# EAGLE library part MIC4423B (library TABOR K1)
2x Invertor driver MOSFET
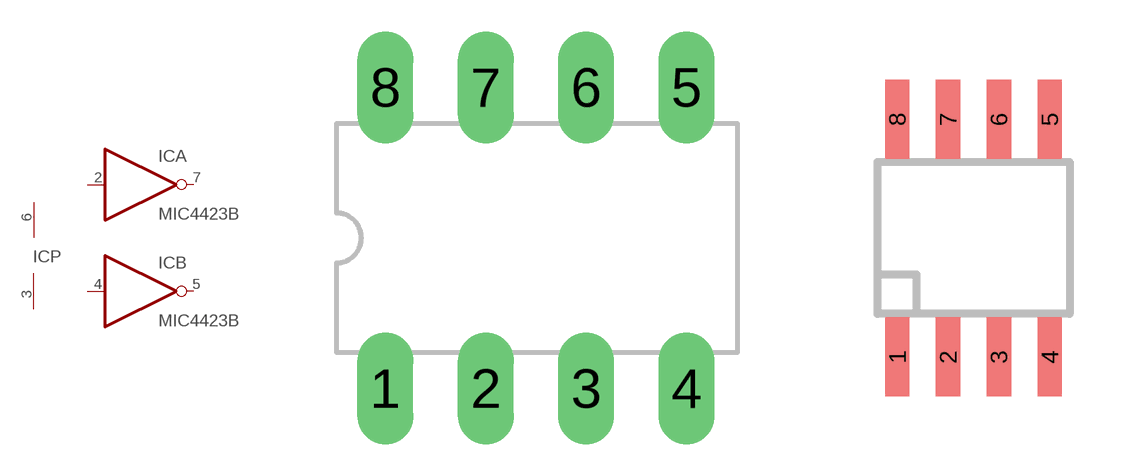
[diagram p60: symbol with the pads of DIL08; footprints DIL08, SO08]

Designator prefix IC; gates A=INVERTOR-AMP B=INVERTOR-AMP P=PWR-GND+V

## MIC4423BN  [DIL08]
2  A:IN  in
3  P:GND  pwr
4  B:IN  in
5  B:OUT  out
6  P:V+  pwr
7  A:OUT  out

## MIC4423BM  [SO08]
Pads as for DIL08

## Footprint DIL08 (pad centres in mm)
Púzdro DIL08 : diera s pokovenim = 0,6 mm, vrtanie = 0,8mm
drill 0.813 pad 1.422 long: 1 -3.81,-3.81; 2 -1.27,-3.81; 3 1.27,-3.81; 4 3.81,-3.81; 5 3.81,3.81; 6 1.27,3.81; 7 -1.27,3.81; 8 -3.81,3.81

## Footprint SO08 (pad centres in mm)
Puzdro SO08 : cinova ploska = 0,86 mm
smd 0.61 x 1.981: 1 -1.905,-2.972; 2 -0.635,-2.972; 3 0.635,-2.972; 4 1.905,-2.972; 5 1.905,2.972; 6 0.635,2.972; 7 -0.635,2.972; 8 -1.905,2.972